# Altium integrated library ST Interface MOSFET Driver.IntLib: 10 symbols
Pins are listed as number, name and electrical type; pins without a type are passive.

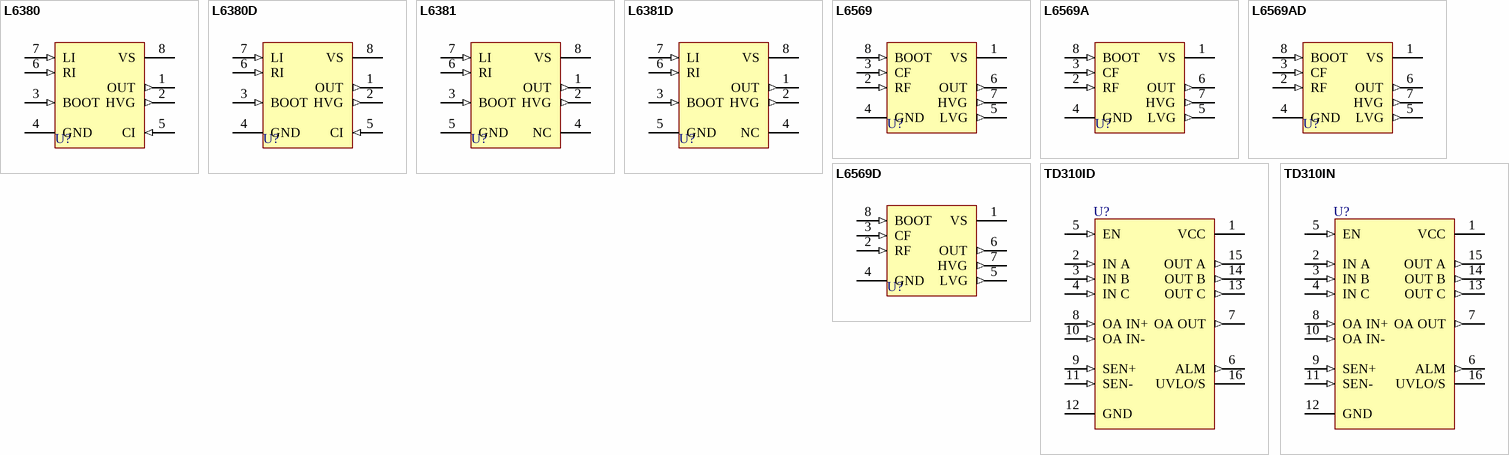
[diagram p0: symbols L6380 to TD310IN]

## L6380
designator U?
High Voltage High Side Driver; Published: 8-Jun-2000; LatestRevisionDate: 17-Jul-2002; LatestRevisionNote: Re-released for DXP Platform.; DatasheetDocument: Jan-1999; PackageReference: DIP8; Publisher: Altium Limited; Code_JEDEC: MO-001-AN
footprint DIP8 (DIP; 8 Leads; Row Spacing 7.62 mm; Pitch 2.54 mm)
pins: 1 OUT (out), 2 HVG (out), 3 BOOT (in), 4 GND (power), 5 CI (in), 6 RI (in), 7 LI (in), 8 VS (power)

## L6380D
designator U?
High Voltage High Side Driver; Published: 8-Jun-2000; LatestRevisionDate: 17-Jul-2002; LatestRevisionNote: Re-released for DXP Platform.; DatasheetDocument: Jan-1999; PackageDocument: Jul-1998; PackageReference: SO8; Publisher: Altium Limited; Code_JEDEC: MS-012-AA; Code_IPC: SO8
footprint SO8 (Small Outline; 8 Leads; Body Width 3.9 mm; Pitch 1.27 mm)
pins: 1 OUT (out), 2 HVG (out), 3 BOOT (in), 4 GND (power), 5 CI (in), 6 RI (in), 7 LI (in), 8 VS (power)

## L6381
designator U?
High Voltage High Side Driver; Published: 8-Jun-2000; LatestRevisionDate: 17-Jul-2002; LatestRevisionNote: Re-released for DXP Platform.; DatasheetDocument: Jan-1999; PackageReference: DIP8; Publisher: Altium Limited; Code_JEDEC: MO-001-AN
footprint DIP8 (DIP; 8 Leads; Row Spacing 7.62 mm; Pitch 2.54 mm)
pins: 1 OUT (out), 2 HVG (out), 3 BOOT (in), 4 NC, 5 GND (power), 6 RI (in), 7 LI (in), 8 VS (power)

## L6381D
designator U?
High Voltage High Side Driver; Published: 8-Jun-2000; LatestRevisionDate: 17-Jul-2002; LatestRevisionNote: Re-released for DXP Platform.; DatasheetDocument: Jan-1999; PackageDocument: Jul-1998; PackageReference: SO8; Publisher: Altium Limited; Code_JEDEC: MS-012-AA; Code_IPC: SO8
footprint SO8 (Small Outline; 8 Leads; Body Width 3.9 mm; Pitch 1.27 mm)
pins: 1 OUT (out), 2 HVG (out), 3 BOOT (in), 4 NC, 5 GND (power), 6 RI (in), 7 LI (in), 8 VS (power)

## L6569
designator U?
High Voltage Half Bridge Driver With Oscillator; Published: 8-Jun-2000; LatestRevisionDate: 17-Jul-2002; LatestRevisionNote: Re-released for DXP Platform.; DatasheetDocument: Dec-1997; PackageReference: DIP8; Publisher: Altium Limited; Code_JEDEC: MO-001-AN
footprint DIP8 (DIP; 8 Leads; Row Spacing 7.62 mm; Pitch 2.54 mm)
pins: 1 VS (power), 2 RF (in), 3 CF (in), 4 GND (power), 5 LVG (out), 6 OUT (out), 7 HVG (out), 8 BOOT (in)

## L6569A
designator U?
High Voltage Half Bridge Driver With Oscillator; Published: 8-Jun-2000; LatestRevisionDate: 17-Jul-2002; LatestRevisionNote: Re-released for DXP Platform.; DatasheetDocument: Dec-1997; PackageReference: DIP8; Publisher: Altium Limited; Code_JEDEC: MO-001-AN
footprint DIP8 (DIP; 8 Leads; Row Spacing 7.62 mm; Pitch 2.54 mm)
pins: 1 VS (power), 2 RF (in), 3 CF (in), 4 GND (power), 5 LVG (out), 6 OUT (out), 7 HVG (out), 8 BOOT (in)

## L6569AD
designator U?
High Voltage Half Bridge Driver With Oscillator; Published: 8-Jun-2000; LatestRevisionDate: 17-Jul-2002; LatestRevisionNote: Re-released for DXP Platform.; DatasheetDocument: Dec-1997; PackageDocument: Jul-1998; PackageReference: SO8; Publisher: Altium Limited; Code_JEDEC: MS-012-AA; Code_IPC: SO8
footprint SO8 (Small Outline; 8 Leads; Body Width 3.9 mm; Pitch 1.27 mm)
pins: 1 VS (power), 2 RF (in), 3 CF (in), 4 GND (power), 5 LVG (out), 6 OUT (out), 7 HVG (out), 8 BOOT (in)

## L6569D
designator U?
High Voltage Half Bridge Driver With Oscillator; Published: 8-Jun-2000; LatestRevisionDate: 17-Jul-2002; LatestRevisionNote: Re-released for DXP Platform.; DatasheetDocument: Dec-1997; PackageDocument: Jul-1998; PackageReference: SO8; Publisher: Altium Limited; Code_JEDEC: MS-012-AA; Code_IPC: SO8
footprint SO8 (Small Outline; 8 Leads; Body Width 3.9 mm; Pitch 1.27 mm)
pins: 1 VS (power), 2 RF (in), 3 CF (in), 4 GND (power), 5 LVG (out), 6 OUT (out), 7 HVG (out), 8 BOOT (in)

## TD310ID
designator U?
Triple IGBT/ MOS Driver; Published: 8-Jun-2000; LatestRevisionDate: 17-Jul-2002; LatestRevisionNote: Re-released for DXP Platform.; DatasheetDocument: Oct-1997; PackageDocument: May-1998; PackageReference: SO16; Publisher: Altium Limited
footprint SO16 (Small Outline; 16 Leads; Body Width 3.9 mm; Pitch 1.27 mm)
pins: 1 VCC (power), 2 IN A (in), 3 IN B (in), 4 IN C (in), 5 EN (in), 6 ALM (out), 7 OA OUT (out), 8 OA IN+ (in), 9 SEN+ (in), 10 OA IN- (in), 11 SEN- (in), 12 GND (power), 13 OUT C (out), 14 OUT B (out), 15 OUT A (out), 16 UVLO/S

## TD310IN
designator U?
Triple IGBT/ MOS Driver; Published: 8-Jun-2000; LatestRevisionDate: 17-Jul-2002; LatestRevisionNote: Re-released for DXP Platform.; DatasheetDocument: Oct-1997; PackageDocument: Apr-1996; PackageReference: DIP16; Publisher: Altium Limited
footprint DIP16 (DIP; 16 Leads; Row Spacing 7.62 mm; Pitch 2.54 mm)
pins: 1 VCC (power), 2 IN A (in), 3 IN B (in), 4 IN C (in), 5 EN (in), 6 ALM (out), 7 OA OUT (out), 8 OA IN+ (in), 9 SEN+ (in), 10 OA IN- (in), 11 SEN- (in), 12 GND (power), 13 OUT C (out), 14 OUT B (out), 15 OUT A (out), 16 UVLO/S